# Altium integrated library MyLib.IntLib: 9 symbols
Pins are listed as number, name and electrical type; pins without a type are passive.

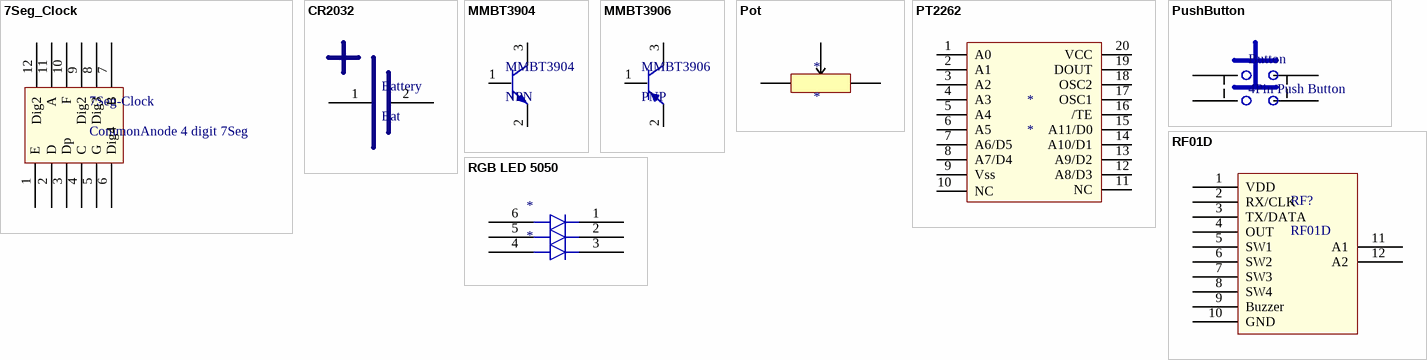
[diagram p0: symbols 7Seg_Clock to RGB LED 5050]

## 7Seg_Clock
designator 7Seg-Clock, comment CommonAnode 4 digit 7Seg
footprint 7Seg-4Digits
pins: 1 E, 2 D, 3 Dp, 4 C, 5 G, 6 Dig4, 7 B, 8 Dig3, 9 Dig2, 10 F, 11 A, 12 Dig2

## CR2032
designator Battery, comment Bat
footprint Battry- C2032
pins: 1, 2

## MMBT3904
designator MMBT3904, comment NPN
footprint SOT23-MMBT
pins: 1, 2, 3

## MMBT3906
designator MMBT3906, comment PNP
footprint SOT23-MMBT
pins: 1, 2, 3

## Pot
designator *
footprint Pot
pins: 1, 2, 3

## PT2262
designator *
footprint SOP20
pins: 1 A0, 2 A1, 3 A2, 4 A3, 5 A4, 6 A5, 7 A6/D5, 8 A7/D4, 9 Vss, 10 NC, 11 NC, 12 A8/D3, 13 A9/D2, 14 A10/D1, 15 A11/D0, 16 /TE, 17 OSC1, 18 OSC2, 19 DOUT, 20 VCC

## PushButton
designator Button, comment 4Pin Push Button
footprint PushButton_4pin
footprint SW4-SMD
pins: 1, 2, 3, 4

## RF01D
designator RF?
footprint RF01D
pins: 1 VDD, 2 RX/CLK, 3 TX/DATA, 4 OUT, 5 SW1, 6 SW2, 7 SW3, 8 SW4, 9 Buzzer, 10 GND, 11 A1, 12 A2

## RGB LED 5050
designator *
footprint 5050 LED
pins: 1, 2, 3, 4, 5, 6